# Altium footprint library SHDR3W79P0X254_1X3_762X580X1175P.PcbLib: 1 footprints
Each footprint in its own frame and in the unit in brackets; x right, y up, seen from the top. Pads: shape width x height; smd on the part's side, far side on the other; paste and mask are expansions set on the pad; w line width, h text height; cw(c..) or ccw(c..) is an arc to the next point about the centre after c.
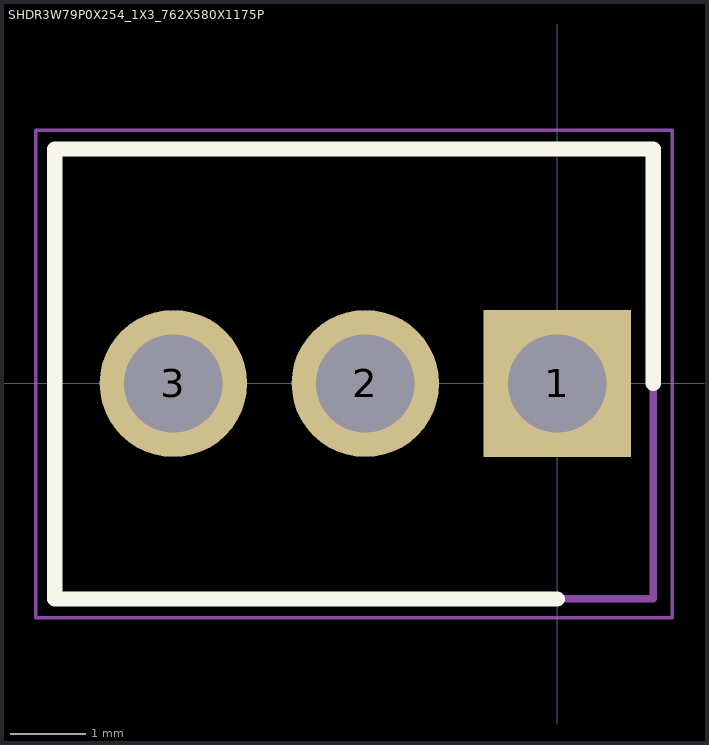
[diagram p0: the footprint, top view; thin cyan lines are the x and y axes]

## SHDR3W79P0X254_1X3_762X580X1175P [mm]
pads (3):
  rect 1.95x1.95 / inner round 1.95 / far side rect 1.95x1.95 hole 1.3: 1(0,0)
  round 1.95 hole 1.3: 2(-2.54,0) 3(-5.08,0)
Top Overlay:
  lines w0.2: 0,-2.85 -6.65,-2.85 -6.65,3.1 1.27,3.1 1.27,0
Mechanical 15:
  lines w0.1: -6.65,-2.85 1.27,-2.85 1.27,3.1 -6.65,3.1 -6.65,-2.85
Mechanical 20:
  lines w0.05: -6.9,-3.1 1.52,-3.1 1.52,3.35 -6.9,3.35 -6.9,-3.1